# Altium footprint library VL820.PcbLib: 42 footprints (part 3 of 3)
Each footprint in its own frame and in the unit in brackets; x right, y up, seen from the top. Pads: shape width x height; smd on the part's side, far side on the other; paste and mask are expansions set on the pad; w line width, h text height; cw(c..) or ccw(c..) is an arc to the next point about the centre after c.
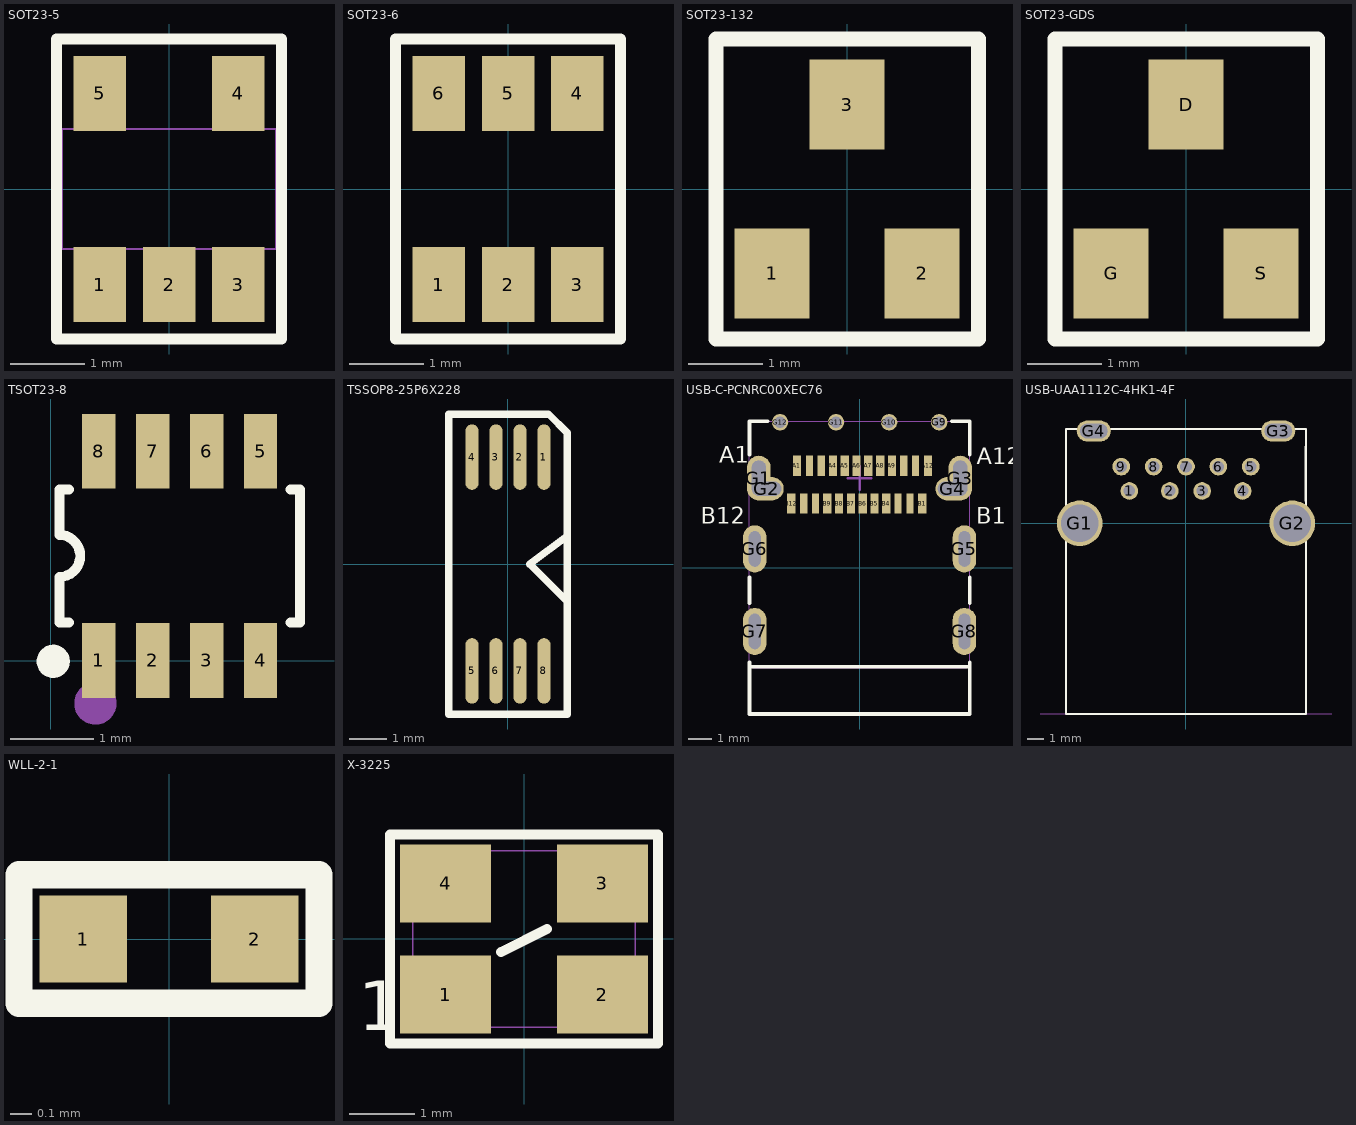
[diagram p2: the footprints below, top view; thin cyan lines are the x and y axes]

## SOT23-5 [mil] "SOT23-5"
pads (5):
  rect 28x40 smd: 1(-37,-51) 2(0,-51) 3(37,-51) 4(37,51) 5(-37,51)
Top Overlay:
  lines w6: -60,-80 -60,80 60,80 60,-80 -60,-80
Mechanical 8:
  lines w1: -57,-32 -57,32 57,32 57,-32 -57,-32
Mechanical 14:
  text "1" at -35,-70 h25
  text "2" at 0,-70 h25
  text "5" at -35,30 h25
  text "4" at 35,30 h25
  text "3" at 35,-70 h25
Mechanical 16:
  lines w1: -60,-80 -60,80 60,80 60,-80 -60,-80
3D body "User Library-SOT23-5.STEP": height 42.79, standoff -0.51, extent -56.69,-58.91 57.47,51.34

## SOT23-6 [mil] "SOT23-6"
pads (6):
  rect 28x40 smd: 1(-37,-51) 2(0,-51) 3(37,-51) 4(37,51) 5(0,51) 6(-37,51)
Top Overlay:
  lines w6: -60,-80 -60,80 60,80 60,-80 -60,-80
Mechanical 14:
  text "5" at 4,51 h10
  text "2" at 4,-51 h10
  text "6" at -33,51 h10
  text "1" at -33,-51 h10
  text "3" at 41,-51 h10
  text "4" at 41,51 h10
Mechanical 15:
  lines w1: -60,-80 -60,80 60,80 60,-80 -60,-80
3D body "User Library-SOT23-6-4.STEP": height 39.37, standoff -3.94, extent -55.99,-41.48 58.18,53.01

## SOT23-132 [mil] "SOT23-132"
pads (3):
  rect 40x48 smd: 1(-40,-45) 2(40,-45) 3(0,45)
Top Overlay:
  lines w8: -70,-80 70,-80 70,80 -70,80 -70,-80
Mechanical 14:
  text "3" at -10,45 h25
  text "1" at -50,-45 h25
  text "2" at 30,-45 h25
Mechanical 15:
  lines w1: -70,-80 -70,80 70,80 70,-80 -70,-80
3D body "User Library-SOT95P280X135-3M[SOT23_TO-236AA].STEP": height 51.18, standoff 0, extent -60.97,-62.66 57.15,55.45

## SOT23-GDS [mil] "SOT23-GDS"
pads (3):
  rect 40x48 smd: D(0,45) G(-40,-45) S(40,-45)
Top Overlay:
  lines w8: -70,-80 -70,80 70,80 70,-80 -70,-80
Mechanical 14:
  text "G" at -50,-45 h25
  text "D" at -10,45 h25
  text "S" at 30,-45 h25
Mechanical 15:
  lines w1: -70,-80 70,-80 70,80 -70,80 -70,-80
3D body "User Library-SOT95P280X135-3M[SOT23_TO-236AA].STEP": height 51.18, standoff 0, extent -61.17,-62.26 56.95,55.85

## TSOT23-8 [mm]
pads (8):
  rect 0.4x0.9 smd paste+0 mask+0.051: 1(0.581,0.006) 2(1.231,0.006) 3(1.881,0.006) 4(2.531,0.006) 5(2.531,2.526) 6(1.881,2.526) 7(1.231,2.526) 8(0.581,2.526)
Top Overlay:
  circle w0.2: c0.032,-0.004 r0.1
  lines w0.12: 0.105,1.011 ccw(c0.103,1.265) 0.106,1.52 0.106,2.066 0.221,2.066 ; 0.106,1.012 0.106,0.466 0.221,0.466 ; 2.89,0.466 3.006,0.466 3.006,2.066 2.89,2.066
Mechanical 15:
  circle w0.254: c0.54,-0.512 r0.127

## TSSOP8-25P6X228 [mil] "TSSOP8-25P6X228"
pads (8):
  oval 14x70 smd: 1(38.43,114) 2(12.83,114) 3(-12.77,114) 4(-38.37,114) 5(-38.37,-114) 6(-12.77,-114) 7(12.83,-114) 8(38.43,-114)
Top Overlay:
  lines w8: 63.23,-40 23.23,0 63.23,30 ; -63.23,-160 63.23,-160 63.23,140 43.23,160 -63.23,160 -63.23,-160
Mechanical 14:
  text "3" at -16.77,114 h10
  text "2" at 8.83,114 h10
  text "5" at -42.37,-114 h10
  text "1" at 34.43,114 h10
  text "6" at -16.77,-114 h10
  text "4" at -42.37,114 h10
  text "7" at 8.83,-114 h10
  text "8" at 34.43,-114 h10
Mechanical 16:
  lines w1: -63.23,-160 -63.23,160 43.23,160 63.23,140 63.23,-160 -63.23,-160
3D body "TSSOP8.STEP": height 39.37, standoff -3.94, extent -61.94,-99.61 64.04,105.11

## USB-C-PCNRC00XEC76 [mm] "USB-C-PCNRC00XEC76"
pads (36):
  rect 0.35x0.85 smd: A1(-2.655,4.315) A4(-1.13,4.315) A5(-0.63,4.315) A6(-0.13,4.315) A7(0.37,4.315) A8(0.87,4.315) A9(1.37,4.315) A12(2.895,4.315) B1(2.655,2.715) B4(1.13,2.715) B5(0.63,2.715) B6(0.13,2.715) B7(-0.37,2.715) B8(-0.87,2.715) B9(-1.37,2.715) B12(-2.895,2.715)
  rect 0.305x0.851 smd: A2(-2.13,4.315) A3(-1.63,4.315) A10(1.87,4.315) A11(2.37,4.315) B2(2.13,2.715) B3(1.63,2.715) B10(-1.87,2.715) B11(-2.37,2.715)
  oval 1x1.9 hole 1.5 slot 0.6 at 0 deg: G1(-4.27,3.79) G3(4.27,3.79)
  oval 1.45x1 hole 0.6 slot 1.25 at 0 deg: G2(-3.945,3.34) G4(3.945,3.34)
  oval 1x2 hole 1.5 slot 0.5 at 0 deg: G5(4.445,0.79) G6(-4.445,0.79) G7(-4.445,-2.71) G8(4.445,-2.71)
  round 0.7 hole 0.5: G9(3.375,6.16) G10(1.25,6.16) G11(-1,6.16) G12(-3.375,6.16)
Top Overlay:
  lines w0.152: -4.67,-4.21 4.67,-4.21 ; -4.67,-4.01 -4.67,-6.21 4.67,-6.21 4.67,-4.01 ; -4.67,-1.51 -4.67,-0.41 ; -4.67,4.79 -4.67,6.21 -3.9,6.21 ; 3.9,6.21 4.67,6.21 4.67,4.79 ; 4.67,-1.51 4.67,-0.41
  text "A1" at -5.952,4.451 h0.7
  text "A12" at 4.97,4.375 h0.7
  text "B1" at 4.944,1.861 h0.7
  text "B12" at -6.74,1.861 h0.7
Mechanical 7:
  lines w0.025: -4.67,-6.21 -4.67,6.21 4.67,6.21 4.67,-6.21 -4.67,-6.21
Mechanical 9:
  lines w0.1: -0.5,3.79 0.5,3.79 ; 0,3.29 0,4.29
Mechanical 14:
  text "B8" at -1.11,2.715 h0.3
  text "A8" at 0.63,4.315 h0.3
  text "B4" at 0.89,2.715 h0.3
  text "B9" at -1.61,2.715 h0.3
  text "A4" at -1.37,4.315 h0.3
  text "A9" at 1.13,4.315 h0.3
  text "A5" at -0.87,4.315 h0.3
  text "B5" at 0.39,2.715 h0.3
  text "G12" at -3.735,6.16 h0.3
  text "G11" at -1.36,6.16 h0.3
  text "G10" at 0.89,6.16 h0.3
  text "G9" at 3.135,6.16 h0.3
  text "G8" at 4.205,-2.71 h0.3
  text "G7" at -4.685,-2.71 h0.3
  text "G4" at 3.705,3.34 h0.3
  text "G2" at -4.185,3.34 h0.3
  text "G3" at 4.03,3.79 h0.3
  text "G6" at -4.685,0.79 h0.3
  text "B1" at 2.415,2.715 h0.3
  text "B12" at -3.255,2.715 h0.3
  text "A12" at 2.535,4.315 h0.3
  text "G5" at 4.205,0.79 h0.3
  text "G1" at -4.51,3.79 h0.3
  text "A1" at -2.895,4.315 h0.3
  text "B11" at -2.73,2.715 h0.3
  text "B10" at -2.23,2.715 h0.3
  text "A11" at 2.01,4.315 h0.3
  text "A10" at 1.51,4.315 h0.3
  text "A2" at -2.37,4.315 h0.3
  text "A3" at -1.87,4.315 h0.3
  text "B2" at 1.89,2.715 h0.3
  text "B3" at 1.39,2.715 h0.3
  text "B6" at -0.11,2.715 h0.3
  text "A6" at -0.37,4.315 h0.3
  text "B7" at -0.61,2.715 h0.3
  text "A7" at 0.13,4.315 h0.3
Mechanical 15:
  lines w0.025: -4.67,-6.21 -4.67,6.21 4.67,6.21 4.67,-6.21 -4.67,-6.21
  lines w0.152: -4.5,-4.21 4.5,-4.21
3D body "type-Cĸ?": height 3.35, standoff -0.9, extent -4.6,-4.272 4.65,4.828

## USB-UAA1112C-4HK1-4F [mil] "USB-UAA1112C-4HK1-4F"
pads (13):
  round 43 hole 28: 1(-137.8,78.74) 2(-39.37,78.74) 3(39.37,78.74) 4(137.8,78.74) 5(157.48,137.8) 6(78.74,137.8) 7(0,137.8) 8(-78.74,137.8) 9(-157.48,137.8)
  round 111 hole 91: G1(-258.66,0) G2(258.66,0)
  oval 83x51 hole 35 slot 67 at 0 deg: G3(224.41,224.41) G4(-224.41,224.41)
Top Overlay:
  lines w5: -291.34,-463.78 -291.34,229.13 291.34,229.13 291.34,-463.78 -291.34,-463.78
  lines w6: 291.34,55 291.34,185.83
Bottom Overlay:
  drawing of 10 lines, arcs and shapes, not listed
Mechanical 7:
  text "v" at -12,0 h30
Mechanical 9:
  text "v" at -12,0 h30
Mechanical 14:
  text "G1" at -266.66,0 h10
  text "G4" at -232.41,224.41 h10
  text "7" at -4,137.8 h10
  text "G2" at 250.66,0 h10
  text "4" at 133.8,78.74 h10
  text "G3" at 216.41,224.41 h10
  text "6" at 74.74,137.8 h10
  text "5" at 153.48,137.8 h10
  text "9" at -161.48,137.8 h10
  text "8" at -82.74,137.8 h10
  text "3" at 35.37,78.74 h10
  text "2" at -43.37,78.74 h10
  text "1" at -141.8,78.74 h10
Mechanical 15:
  lines w1: -354.33,-463.78 354.33,-463.78 ; -291.34,-463.78 -291.34,229.13 291.34,229.13 291.34,-463.78 -291.34,-463.78
  text "USB-UAA1112C-4HK1-4F" at -190,-355 h30
  text "PCB EDGE" at 310,-460 h40
  text "P.C.B T=1.6mm" at -230,-155 h40
3D body: height 150, standoff 0, extent -290.36,-467.72 290.35,187.8

## WLL-2-1 [mil] "WLL-2-1"
pads (2):
  rect 16x16 smd: 1(-15.75,0) 2(15.75,0)
Top Overlay:
  lines w5: -27.56,-11.81 27.56,-11.81 27.56,11.81 -27.56,11.81 -27.56,-11.81
Mechanical 14:
  text "1" at -11.75,0 h10
  text "2" at 19.75,0 h10
3D body "User Library-RES_1005-0402.STEP": height 16.14, standoff 0, extent -22.63,-9.82 22.64,11.83

## X-3225 [mm] "X-3225"
pads (4):
  rect 1.397x1.194 smd: 1(-1.2,-0.85) 2(1.2,-0.85) 3(1.2,0.85) 4(-1.2,0.85)
Top Overlay:
  lines w0.152: -0.35,-0.2 0.35,0.15 ; -2.05,-1.6 -2.05,1.6 2.05,1.6 2.05,-1.6 -2.05,-1.6
  text "1" at -2.54,-1.397 h0.76
Mechanical 14:
  text "2" at 1.098,-0.85 h0.25
  text "4" at -1.302,0.85 h0.25
  text "1" at -1.302,-0.85 h0.25
  text "3" at 1.098,0.85 h0.25
Mechanical 15:
  lines w0.025: -1.7,-1.35 -1.7,1.35 1.7,1.35 1.7,-1.35 -1.7,-1.35
3D body "OSC 3225-4.STEP": height 0.7, standoff -0.02, extent -1.6,-1.275 1.6,1.225